# Altium footprint library SUBD-X.PcbLib: 2 footprints
Each footprint in its own frame and in the unit in brackets; x right, y up, seen from the top. Pads: shape width x height; smd on the part's side, far side on the other; paste and mask are expansions set on the pad; w line width, h text height; cw(c..) or ccw(c..) is an arc to the next point about the centre after c.
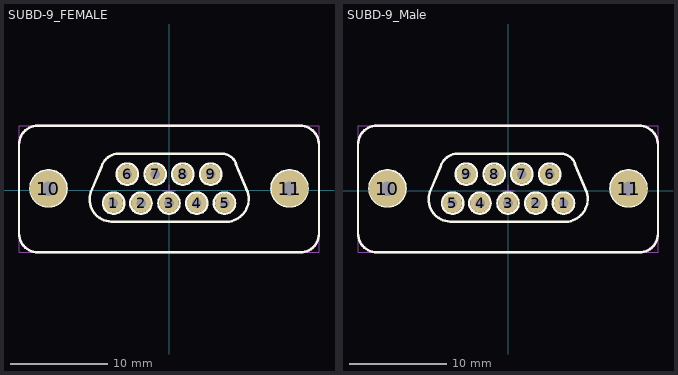
[diagram p0: the footprints below, top view; thin cyan lines are the x and y axes]

## SUBD-9_FEMALE [mm]
pads (11):
  round 2 hole 1: 1(-5.788,-1.346) 2(-2.913,-1.346) 3(-0.038,-1.346) 4(2.837,-1.346) 5(5.712,-1.346) 6(-4.338,1.649) 7(-1.463,1.649) 8(1.387,1.649) 9(4.262,1.649)
  round 3.75 hole 1.5: 10(-12.513,0.149) 11(12.437,0.149)
Top Overlay:
  circle w0.254: c12.408,0.178 r1.875
  circle w0.254: c-12.484,0.178 r1.875
  circle w0.254: c5.693,-1.346 r1.1
  circle w0.254: c4.272,1.651 r1.1
  circle w0.254: c2.824,-1.346 r1.1
  circle w0.254: c1.389,1.651 r1.1
  circle w0.254: c-0.038,-1.346 r1.1
  circle w0.254: c-1.468,1.651 r1.1
  circle w0.254: c-2.938,-1.346 r1.1
  circle w0.254: c-4.351,1.651 r1.1
  circle w0.254: c-5.753,-1.346 r1.1
  lines w0.254: -8.1,-0.181 ccw(c-5.943,-0.964) -5.753,-3.251 5.677,-3.251 ; -8.1,-0.181 -6.992,2.454 cw(c-5.215,1.913) -5.5,3.748 ; -5.499,3.734 5.677,3.734 ; 5.423,3.755 cw(c5.423,2.21) 6.947,2.464 6.871,2.692 8.085,-0.219 cw(c5.846,-0.923) 5.673,-3.264 ; -15.532,-4.48 ccw(c-13.586,-4.48) -13.586,-6.426 13.551,-6.426 ccw(c13.551,-4.521) 15.456,-4.521 15.456,4.69 ccw(c13.491,4.69) 13.491,6.655 -0.292,6.655 -13.586,6.655 ccw(c-13.586,4.709) -15.532,4.709 -15.532,-4.48
Mechanical 13:
  lines w0.254: -15.532,-4.48 ccw(c-13.586,-4.48) -13.586,-6.426 13.51,-6.426 ccw(c13.51,-4.48) 15.456,-4.48 15.456,4.709 ccw(c13.51,4.709) 13.51,6.655 -13.586,6.655 ccw(c-13.586,4.709) -15.532,4.709 -15.532,-4.48
Mechanical 15:
  lines w0.127: -0.673,-0.076 0.597,-0.076 ; -0.038,-0.711 -0.038,0.559 ; -15.532,-6.426 15.456,-6.426 15.456,6.655 -15.532,6.655 -15.532,-6.426
Mechanical 17:
  text ".Designator" at -5.372,-4.394 h2
3D body: height 11, standoff -5, extent -15.127,-5.891 14.873,6.109

## SUBD-9_Male [mm]
pads (11):
  round 2 hole 1: 1(5.75,-1.27) 2(2.875,-1.27) 3(0,-1.27) 4(-2.875,-1.27) 5(-5.75,-1.27) 6(4.3,1.725) 7(1.425,1.725) 8(-1.425,1.725) 9(-4.3,1.725)
  round 3.75 hole 1.5: 10(-12.475,0.225) 11(12.475,0.225)
Top Overlay:
  circle w0.254: c-5.715,-1.27 r1.1
  circle w0.254: c-4.313,1.727 r1.1
  circle w0.254: c-2.9,-1.27 r1.1
  circle w0.254: c-1.43,1.727 r1.1
  circle w0.254: c0,-1.27 r1.1
  circle w0.254: c1.427,1.727 r1.1
  circle w0.254: c2.862,-1.27 r1.1
  circle w0.254: c4.31,1.727 r1.1
  circle w0.254: c5.731,-1.27 r1.1
  circle w0.254: c-12.446,0.254 r1.875
  circle w0.254: c12.446,0.254 r1.875
  lines w0.254: -8.062,-0.105 ccw(c-5.905,-0.888) -5.715,-3.175 5.715,-3.175 ; -8.062,-0.105 -6.953,2.53 cw(c-5.177,1.989) -5.462,3.825 ; -5.461,3.81 5.715,3.81 ; 5.461,3.831 cw(c5.461,2.286) 6.985,2.54 6.909,2.769 8.124,-0.143 cw(c5.884,-0.846) 5.711,-3.188 ; -15.494,-4.404 ccw(c-13.548,-4.404) -13.548,-6.35 13.589,-6.35 ccw(c13.589,-4.445) 15.494,-4.445 15.494,4.766 ccw(c13.529,4.766) 13.529,6.731 -0.254,6.731 -13.548,6.731 ccw(c-13.548,4.785) -15.494,4.785 -15.494,-4.404
Mechanical 13:
  lines w0.254: -15.494,-4.404 ccw(c-13.548,-4.404) -13.548,-6.35 13.548,-6.35 ccw(c13.548,-4.404) 15.494,-4.404 15.494,4.785 ccw(c13.548,4.785) 13.548,6.731 -13.548,6.731 ccw(c-13.548,4.785) -15.494,4.785 -15.494,-4.404
Mechanical 15:
  lines w0.127: -0.635,0 0.635,0 ; 0,-0.635 0,0.635 ; -15.494,-6.35 -15.494,6.731 15.494,6.731 15.494,-6.35 -15.494,-6.35
Mechanical 17:
  text ".Designator" at -5.334,-4.318 h2
3D body: height 9.5, standoff 0, extent -15.475,-6.275 15.525,6.725
3D body: height 0.5, standoff -3.5, extent -6.246,-1.769 -5.25,-0.771
3D body: height 0.5, standoff -3.5, extent -3.371,-1.769 -2.375,-0.771
3D body: height 0.5, standoff -3.5, extent -0.496,-1.769 0.5,-0.771
3D body: height 0.5, standoff -3.5, extent -4.796,1.226 -3.8,2.224
3D body: height 0.5, standoff -3.5, extent -1.921,1.226 -0.925,2.224
3D body: height 0.5, standoff -3.5, extent 0.929,1.226 1.925,2.224
3D body: height 0.5, standoff -3.5, extent 3.804,1.226 4.8,2.224
3D body: height 0.5, standoff -3.5, extent 2.379,-1.769 3.375,-0.771
3D body: height 0.5, standoff -3.5, extent 5.254,-1.769 6.25,-0.771